# Altium schematic symbol library IC-CC2630RSM.SchLib: 1 symbol
Pins are listed as number, name and electrical type; pins without a type are passive.

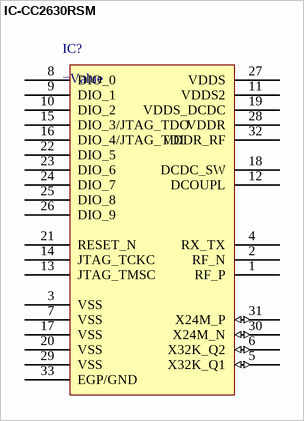
[diagram p0: symbol IC-CC2630RSM]

## IC-CC2630RSM
designator IC?
=Description
pins: 1 RF_P, 2 RF_N, 3 VSS, 4 RX_TX, 5 X32K_Q1 (io), 6 X32K_Q2 (io), 7 VSS, 8 DIO_0, 9 DIO_1, 10 DIO_2, 11 VDDS2, 12 DCOUPL, 13 JTAG_TMSC, 14 JTAG_TCKC, 15 DIO_3/JTAG_TDO, 16 DIO_4/JTAG_TDI, 17 VSS, 18 DCDC_SW, 19 VDDS_DCDC, 20 VSS, 21 RESET_N, 22 DIO_5, 23 DIO_6, 24 DIO_7, 25 DIO_8, 26 DIO_9, 27 VDDS, 28 VDDR, 29 VSS, 30 X24M_N (io), 31 X24M_P (io), 32 VDDR_RF, 33 EGP/GND